# EAGLE library part EP94Z1E (library Deegou_IC)
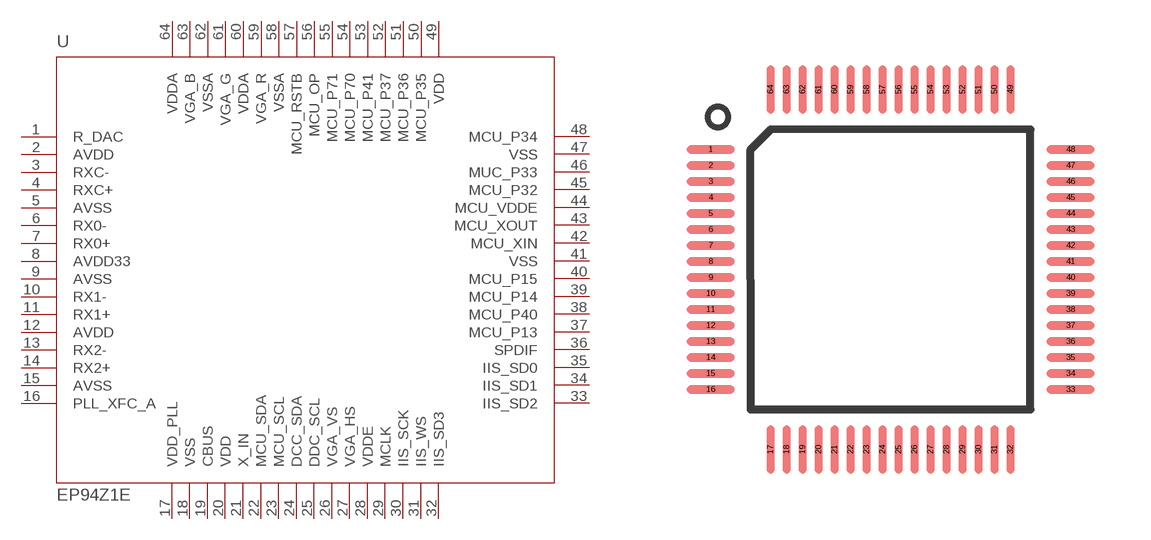
[diagram p0: symbol with the pads of TQFP64; footprint TQFP64]

Designator prefix U

## EP94Z1E'-TQFP64_7X7'  [TQFP64]
1  R_DAC
2  AVDD
3  RXC-
4  RXC+
5  AVSS
6  RX0-
7  RX0+
8  AVDD33
9  AVSS
10  RX1-
11  RX1+
12  AVDD
13  RX2-
14  RX2+
15  AVSS
16  PLL_XFC_A
17  VDD_PLL
18  VSS
19  CBUS
20  VDD
21  X_IN
22  MCU_SDA
23  MCU_SCL
24  DCC_SDA
25  DDC_SCL
26  VGA_VS
27  VGA_HS
28  VDDE
29  MCLK
30  IIS_SCK
31  IIS_WS
32  IIS_SD3
33  IIS_SD2
34  IIS_SD1
35  IIS_SD0
36  SPDIF
37  MCU_P13
38  MCU_P40
39  MCU_P14
40  MCU_P15
41  VSS
42  MCU_XIN
43  MCU_XOUT
44  MCU_VDDE
45  MCU_P32
46  MUC_P33
47  VSS
48  MCU_P34
49  VDD
50  MCU_P35
51  MCU_P36
52  MCU_P37
53  MCU_P41
54  MCU_P70
55  MCU_P71
56  MCU_OP
57  MCU_RSTB
58  VSSA
59  VGA_R
60  VDDA
61  VGA_G
62  VSSA
63  VGA_B
64  VDDA

## Footprint TQFP64 (pad centres in mm)
Original name TQFP64-9x9
smd 1.2 x 0.2: 1 -4.5,3; 2 -4.5,2.6; 3 -4.5,2.2; 4 -4.5,1.8; 5 -4.5,1.4; 6 -4.5,1; 7 -4.5,0.6; 8 -4.5,0.2; 9 -4.5,-0.2; 10 -4.5,-0.6; 11 -4.5,-1; 12 -4.5,-1.4; 13 -4.5,-1.8; 14 -4.5,-2.2; 15 -4.5,-2.6; 16 -4.5,-3; 33 4.5,-3; 34 4.5,-2.6; 35 4.5,-2.2; 36 4.5,-1.8; 37 4.5,-1.4; 38 4.5,-1; 39 4.5,-0.6; 40 4.5,-0.2; 41 4.5,0.2; 42 4.5,0.6; 43 4.5,1; 44 4.5,1.4; 45 4.5,1.8; 46 4.5,2.2; 47 4.5,2.6; 48 4.5,3
smd 0.2 x 1.2: 17 -3,-4.5; 18 -2.6,-4.5; 19 -2.2,-4.5; 20 -1.8,-4.5; 21 -1.4,-4.5; 22 -1,-4.5; 23 -0.6,-4.5; 24 -0.2,-4.5; 25 0.2,-4.5; 26 0.6,-4.5; 27 1,-4.5; 28 1.4,-4.5; 29 1.8,-4.5; 30 2.2,-4.5; 31 2.6,-4.5; 32 3,-4.5; 49 3,4.5; 50 2.6,4.5; 51 2.2,4.5; 52 1.8,4.5; 53 1.4,4.5; 54 1,4.5; 55 0.6,4.5; 56 0.2,4.5; 57 -0.2,4.5; 58 -0.6,4.5; 59 -1,4.5; 60 -1.4,4.5; 61 -1.8,4.5; 62 -2.2,4.5; 63 -2.6,4.5; 64 -3,4.5